# EAGLE library part HCPL-7840 (library IntegratedLib)
OptoCoupler 1-CH 5V 8-Pin PDIP Tube / IC OPAMP ISOLATION 100KHZ 8DIP
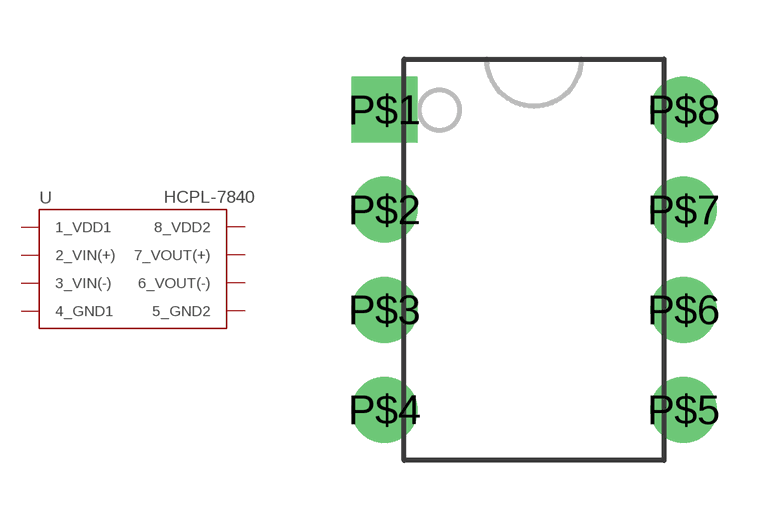
[diagram p51: symbol with the pads of DIP-8; footprint DIP-8]

Designator prefix U

## HCPL-7840 (FABRICANTE: AVAGO; PARTNUMBER: HCPL-7840-000E; TIPO: CIRCUITO INTEGRADO)  [DIP-8]
P$1  1_VDD1
P$2  2_VIN(+)
P$3  3_VIN(-)
P$4  4_GND1
P$5  5_GND2
P$6  6_VOUT(-)
P$7  7_VOUT(+)
P$8  8_VDD2

## Footprint DIP-8 (pad centres in mm)
drill 1 pad 1.676 square: P$1 -3.8,3.81
drill 1 pad 1.676: P$2 -3.8,1.27; P$3 -3.8,-1.27; P$4 -3.8,-3.81; P$5 3.8,-3.81; P$6 3.8,-1.27; P$7 3.8,1.27; P$8 3.8,3.81